# EAGLE library part SAMTEC-TSM-116-01-X-SV-LC (library m2_feather_interposer)
Check prices <https://pricing.snapeda.com/parts/TSM-116-01-S-SV-LC/Samtec/view-part?ref=eda>
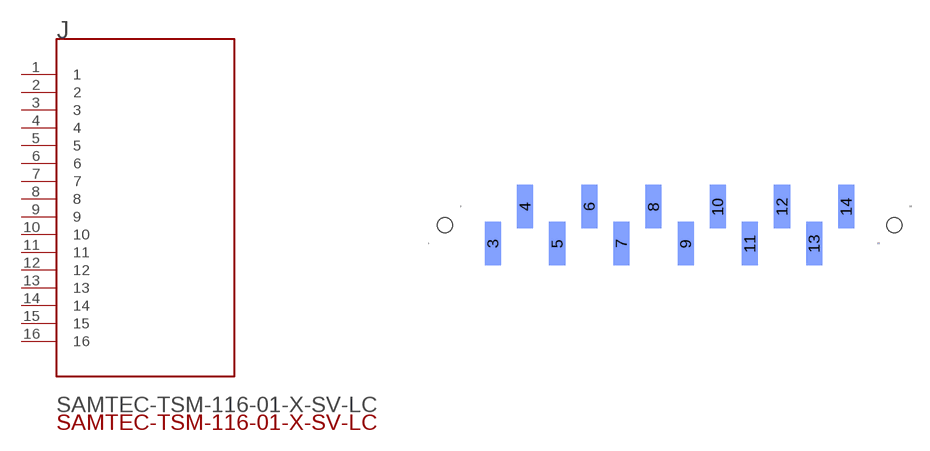
[diagram p2: symbol with the pads of SAMTEC-TSM-116-01-X-SV-LC; footprint SAMTEC-TSM-116-01-X-SV-LC]

Designator prefix J

## SAMTEC-TSM-116-01-X-SV-LCJ (AVAILABILITY: Warning; DESCRIPTION: Connector Header Surface Mount 16 position 0.100 (2.54mm); MF: Samtec; MP: TSM-116-01-S-SV-LC; PACKAGE: None; PRICE: None; PURCHASE-URL: https://pricing.snapeda.com/search/part/TSM-116-01-S-SV-LC/?ref=eda)  [SAMTEC-TSM-116-01-X-SV-LC]
1  1
2  2
3  3
4  4
5  5
6  6
7  7
8  8
9  9
10  10
11  11
12  12
13  13
14  14
15  15
16  16

## Footprint SAMTEC-TSM-116-01-X-SV-LC (pad centres in mm)
translated Allegro footprint
smd 0.01 x 0.01 bottom: 1 -1.27,-1.46; 2 1.27,1.46; 15 34.29,-1.46; 16 36.83,1.46
smd 1.27 x 3.43 bottom: 3 3.81,-1.46; 4 6.35,1.46; 5 8.89,-1.46; 6 11.43,1.46; 7 13.97,-1.46; 8 16.51,1.46; 9 19.05,-1.46; 10 21.59,1.46; 11 24.13,-1.46; 12 26.67,1.46; 13 29.21,-1.46; 14 31.75,1.46
hole 1.19 at 35.56,0
hole 1.19 at 0,0